# Altium footprint library 2020-01-06_12-17-20.PcbLib: 5 footprints
Each footprint in its own frame and in the unit in brackets; x right, y up, seen from the top. Pads: shape width x height; smd on the part's side, far side on the other; paste and mask are expansions set on the pad; w line width, h text height; cw(c..) or ccw(c..) is an arc to the next point about the centre after c.
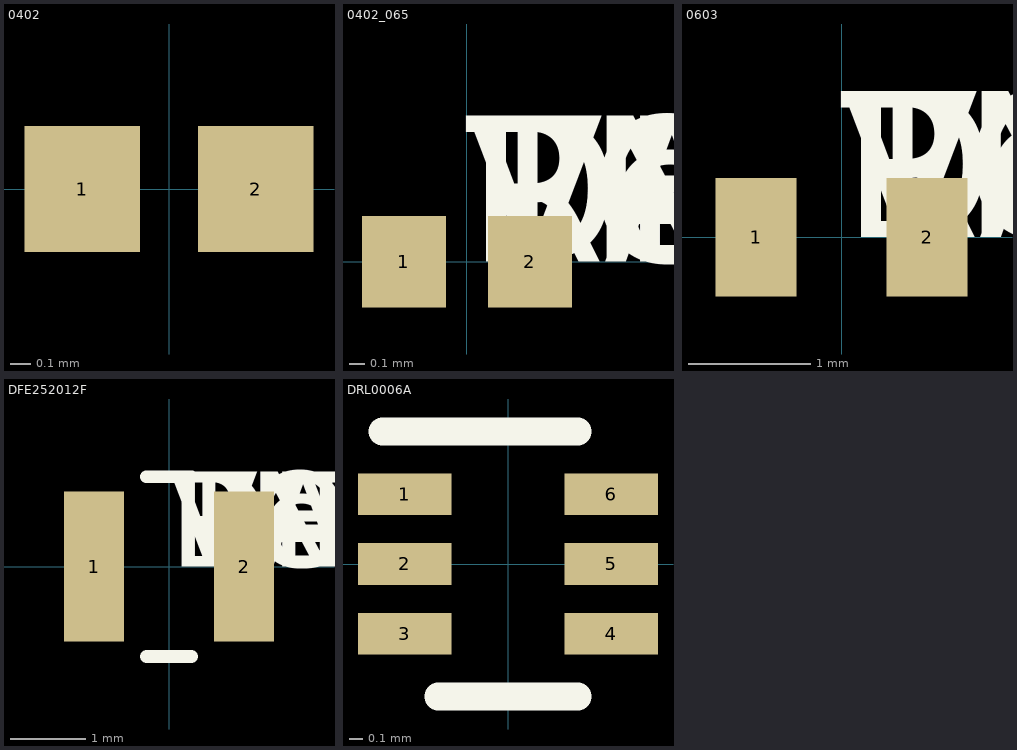
[diagram p0: the footprints below, top view; thin cyan lines are the x and y axes]

## 0402 [mil]
pads (2):
  rect 22x24 smd: 1(-16.5,0) 2(16.5,0)
3D body "0402.stp": height 22, standoff 0, extent -21.5,-12 21.5,12

## 0402_065 [mil]
pads (2):
  rect 22x24 smd: 1(-16.5,0) 2(16.5,0)
Top Overlay:
  text "RefDes" at 0,0 h50
  text "DEV" at 0,0 h50
  text "PN" at 0,0 h50
  text "DEV" at 0,0 h50
  text "VAL" at 0,0 h50
  text "TOL" at 0,0 h50
3D body "0402_065.stp": height 22, standoff 0, extent -21.5,-12 21.5,12

## 0603 [mil]
pads (2):
  rect 26x38 smd: 1(-27.5,0) 2(27.5,0)
Top Overlay:
  text "TOL" at 0,0 h50
  text "VAL" at 0,0 h50
  text "DEV" at 0,0 h50
  text "PN" at 0,0 h50
  text "DEV" at 0,0 h50
  text "RefDes" at 0,0 h50
3D body "0603.stp": height 20, standoff 0, extent -34.5,-19 34.5,19

## DFE252012F [mm]
pads (2):
  rect 0.8x2 smd paste+0 mask+0.051: 1(-1,0) 2(1,0)
Top Overlay:
  lines w0.17: -0.3,-1.2 0.3,-1.2 ; -0.3,1.2 0.3,1.2
  text "TOL" at 0,0 h1.27
  text "VAL" at 0,0 h1.27
  text "DEV" at 0,0 h1.27
  text "PN" at 0,0 h1.27
  text "DEV" at 0,0 h1.27
  text "RefDes" at 0,0 h1.27
3D body: height 0.25, standoff 0, extent 0,0 0.254,0.254

## DRL0006A [mm]
pads (6):
  rect 0.67x0.3 smd paste+0 mask+0.051: 1(-0.74,0.5) 2(-0.74,0) 3(-0.74,-0.5) 4(0.74,-0.5) 5(0.74,0) 6(0.74,0.5)
Top Overlay:
  lines w0.2: -0.9,0.95 0.5,0.95 ; -0.5,-0.95 0.5,-0.95
3D body: height 0.25, standoff 0, extent -0.762,-0.762 0.762,0.889